# Altium footprint library OltestLib_chul.PcbLib: 102 footprints (part 4 of 7)
Each footprint in its own frame and in the unit in brackets; x right, y up, seen from the top. Pads: shape width x height; smd on the part's side, far side on the other; paste and mask are expansions set on the pad; w line width, h text height; cw(c..) or ccw(c..) is an arc to the next point about the centre after c.
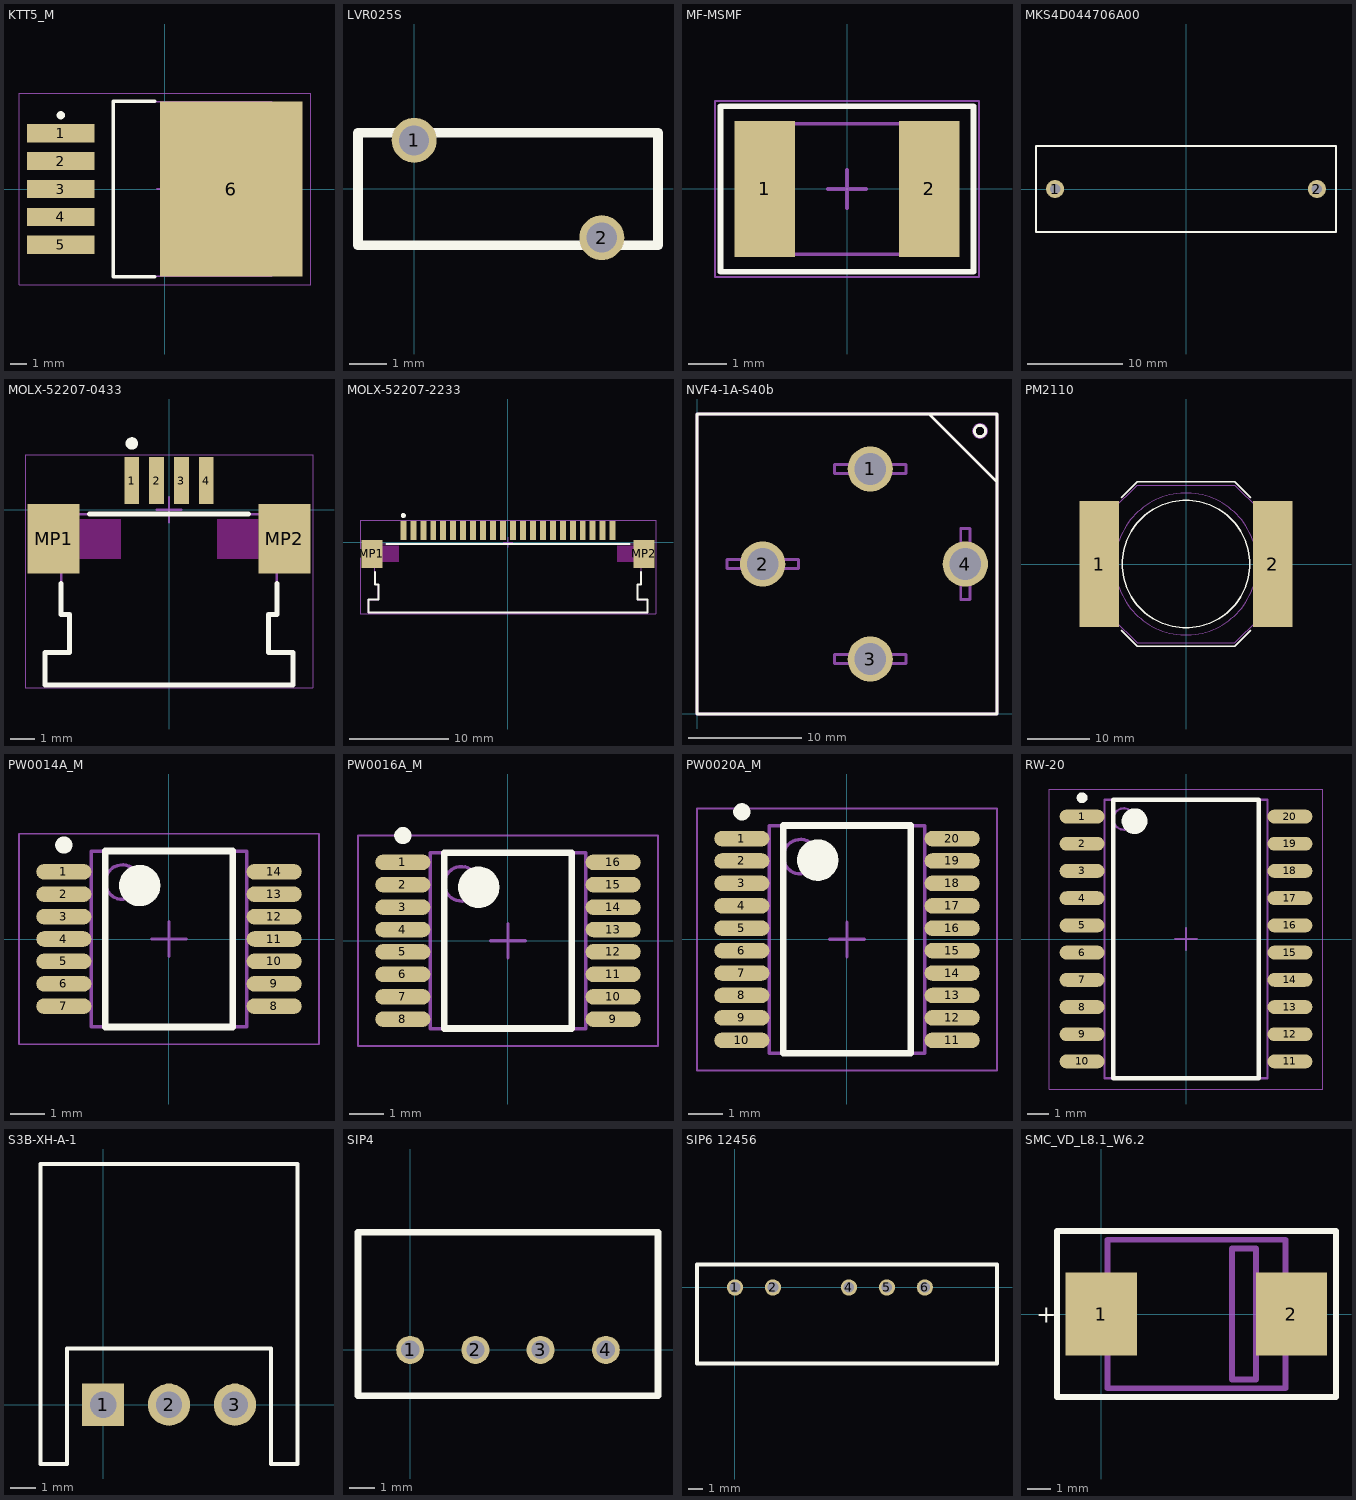
[diagram p3: the footprints below, top view; thin cyan lines are the x and y axes]

## KTT5_M [mm] "D2-PAK, 6-Leads, Body 8.9x10.2mm, Pitch 1.7mm, Lead Span 15.2mm, IPC Low Density"
height 4.83
pads (6):
  rect 4.1x1.1 smd: 1(-6.35,3.4) 2(-6.35,1.7) 3(-6.35,0) 4(-6.35,-1.7) 5(-6.35,-3.4)
  rect 8.7x10.7 smd: 6(4.05,0)
Top Overlay:
  circle w0.25: c-6.35,4.5 r0.125
  lines w0.2: -0.6,-5.35 -3.15,-5.35 -3.15,5.35 -0.6,5.35
Mechanical 13:
  lines w0.1: -3.15,-5.325 6.5,-5.325 6.5,5.325 -3.15,5.325 -3.15,-5.325
Mechanical 15:
  lines w0.05: -8.9,-5.85 8.9,-5.85 8.9,5.85 -8.9,5.85 -8.9,-5.85
  lines w0.1: -0.5,0 0.5,0 ; 0,-0.5 0,0.5
3D body: height 4.83, standoff 0, extent -3.15,-5.325 6.5,5.325

## LVR025S [mm] "Fuse Thermal"
height 14
pads (2):
  round 1.2 hole 0.8: 1(0,1.3) 2(5,-1.3)
Top Overlay:
  lines w0.254: -1.5,-1.5 6.5,-1.5 6.5,1.5 -1.5,1.5 -1.5,-1.5
3D body: height 15.4, standoff -4.08, extent -1.83,-1.8 6.83,1.8

## MF-MSMF [mm] "2-Leads, Body 4,55x3,24mm, IPC Low Density"
height 1
pads (2):
  rect 1.57x3.54 smd: 1(-2.145,0) 2(2.145,0)
Top Overlay:
  lines w0.152: -3.302,-2.159 -3.302,2.159 3.302,2.159 3.302,-2.159 -3.302,-2.159
Mechanical 13:
  lines w0.1: -2.365,-1.705 -2.365,1.705 2.365,1.705 2.365,-1.705 -2.365,-1.705
Mechanical 15:
  lines w0.05: -3.45,-2.3 -3.45,2.3 3.45,2.3 3.45,-2.3 -3.45,-2.3
  lines w0.1: -0.5,0 0.5,0 ; 0,-0.5 0,0.5
3D body: height 1, standoff 0, extent -2.365,-1.705 2.365,1.705

## MKS4D044706A00 [mm]
height 19
pads (2):
  round 1.9 hole 1.1: 1(-13.75,0) 2(13.75,0)
Top Overlay:
  lines w0.203: -15.75,-4.5 -15.75,4.5 15.75,4.5 15.75,-4.5 -15.75,-4.5
Mechanical 13:
  lines w0.152: -15.75,-4.5 -15.75,4.5 15.75,4.5 15.75,-4.5 -15.75,-4.5
3D body: height 19, standoff 0, extent -15.749,-4.499 15.749,4.499

## MOLX-52207-0433 [mm] "FPC Connector, 4-Leads, Right Angle, Pitch 1.0 mm, Mated Height 2.7 mm, SMT"
height 2.712
pads (6):
  rect 0.6x1.9 smd: 1(-1.5,1.175) 2(-0.5,1.175) 3(0.5,1.175) 4(1.5,1.175)
  rect 2.1x2.8 smd: MP1(-4.65,-1.175) MP2(4.65,-1.175)
Top Overlay:
  circle w0.25: c-1.5,2.675 r0.125
  lines w0.2: -4.35,-2.975 -4.35,-4.225 ; -3.2,-0.175 3.2,-0.175 ; 4.35,-2.975 4.35,-4.225 ; -4.35,-4.225 -4.013,-4.225 -4.012,-4.225 -4.012,-5.765 -5,-5.765 -5,-7.075 5,-7.075 5,-5.765 4.012,-5.765 4.012,-4.225 4.013,-4.225 4.35,-4.225 ; -4.35,-4.225 -4.35,-4.225 ; 4.35,-4.225 4.35,-4.225
Keep-Out Layer:
  region: -3.6,-0.375 -1.95,-0.375 -1.95,-1.975 -3.6,-1.975
  region: 3.6,-0.375 1.95,-0.375 1.95,-1.975 3.6,-1.975
Mechanical 13:
  lines w0.1: -5.15,-2.175 -5.15,-0.175 5.15,-0.175 5.15,-2.175 4.35,-2.175 4.35,-4.225 4.012,-4.225 4.012,-5.765 5,-5.765 5,-7.075 -5,-7.075 -5,-5.765 -4.012,-5.765 -4.012,-4.225 -4.35,-4.225 -4.35,-2.175 -5.15,-2.175
Mechanical 15:
  lines w0.05: -5.8,-7.175 -5.8,2.225 5.8,2.225 5.8,-7.175 -5.8,-7.175
  lines w0.1: -0.5,0 0.5,0 ; 0,-0.5 0,0.5
3D body: height 2.71, standoff 0.01, extent -5.15,-7.075 5.15,1.825

## MOLX-52207-2233 [mm] "FPC Connector, 22-Leads, Right Angle, Pitch 1.0 mm, Mated Height 2.7 mm, SMT"
height 2.712
pads (24):
  rect 0.6x1.9 smd: 1(-10.5,1.175) 2(-9.5,1.175) 3(-8.5,1.175) 4(-7.5,1.175) 5(-6.5,1.175) 6(-5.5,1.175) 7(-4.5,1.175) 8(-3.5,1.175) 9(-2.5,1.175) 10(-1.5,1.175) 11(-0.5,1.175) 12(0.5,1.175) 13(1.5,1.175) 14(2.5,1.175) 15(3.5,1.175) 16(4.5,1.175) 17(5.5,1.175) 18(6.5,1.175) 19(7.5,1.175) 20(8.5,1.175) 21(9.5,1.175) 22(10.5,1.175)
  rect 2.1x2.8 smd: MP1(-13.65,-1.175) MP2(13.65,-1.175)
Top Overlay:
  circle w0.25: c-10.5,2.675 r0.125
  lines w0.2: -13.35,-2.975 -13.35,-4.225 -13.013,-4.225 -13.012,-5.765 -14,-5.765 -14,-7.075 14,-7.075 14,-5.765 13.012,-5.765 13.012,-4.225 13.35,-4.225 13.35,-2.975 ; -12.2,-0.175 12.2,-0.175
Keep-Out Layer:
  region: 12.6,-0.375 10.95,-0.375 10.95,-1.975 12.6,-1.975
  region: -12.6,-0.375 -10.95,-0.375 -10.95,-1.975 -12.6,-1.975
Mechanical 13:
  lines w0.1: -14.15,-2.175 -13.35,-2.175 -13.35,-4.225 -13.012,-4.225 -13.012,-5.765 -14,-5.765 -14,-7.075 14,-7.075 14,-5.765 13.012,-5.765 13.012,-4.225 13.35,-4.225 13.35,-2.175 14.15,-2.175 14.15,-0.175 -14.15,-0.175 -14.15,-2.175
Mechanical 15:
  lines w0.05: -14.8,-7.175 14.8,-7.175 14.8,2.225 -14.8,2.225 -14.8,-7.175
  lines w0.1: -0.5,0 0.5,0 ; 0,-0.5 0,0.5
3D body: height 2.71, standoff 0.01, extent -14.15,-7.075 14.15,1.825

## NVF4-1A-S40b [mm]
height 27
pads (4):
  round 4 hole 2.8: 1(15.3,21.65) 2(5.8,13.25) 3(15.3,4.85) 4(23.7,13.25)
Top Overlay:
  circle w0.254: c25,25 r0.5
  lines w0.254: 20.5,26.5 26.5,20.5 ; 0,0 0,26.5 26.5,26.5 26.5,0 0,0
Mechanical 13:
  circle w0.254: c25,25 r0.566
  lines w0.254: 0,0 26.5,0 ; 0,0 0,26.5 ; 0,0 0,26.5 ; 0,0 26.5,0 ; 0,26.5 26.5,26.5 26.5,0 ; 0,26.5 20.5,26.5 26.5,20.5 26.5,0 ; 2.65,12.85 8.95,12.85 8.95,13.65 2.65,13.65 2.65,12.85 ; 12.15,4.45 12.15,5.25 18.45,5.25 18.45,4.45 12.15,4.45 ; 12.15,21.25 12.15,22.05 18.45,22.05 18.45,21.25 12.15,21.25 ; 23.3,10.1 24.1,10.1 24.1,16.4 23.3,16.4 23.3,10.1 ; 23.3,11.95 23.3,14.55 24.1,14.55 24.1,11.95 23.3,11.95
3D body: height 1.7, standoff 0, extent 23.301,11.951 24.1,14.55
3D body: height 2.5, standoff 0, extent 12.151,4.451 18.449,5.249
3D body: height 2.5, standoff 0, extent 12.151,21.251 18.449,22.049
3D body: height 2.5, standoff 0, extent 23.301,10.101 24.099,16.399
3D body: height 2.5, standoff 0, extent 2.651,12.851 8.949,13.649
3D body: height 26.5, standoff 2.5, extent 0.001,0.001 26.499,26.499
3D body: height 27, standoff 26.5, extent 0.001,0.001 26.499,26.499
3D body: height 27, standoff 26.5, extent 24.424,24.424 25.576,25.576
3D body: height 1.7, standoff 0, extent 14.001,4.451 16.6,5.25
3D body: height 1.7, standoff 0, extent 14.001,21.251 16.6,22.05
3D body: height 1.7, standoff 0, extent 4.501,12.851 7.1,13.65

## PM2110 [mm] "PM2110"
height 14.478
pads (2):
  rect 6.35x20.32 smd: 1(-13.97,0) 2(13.97,0)
Top Overlay:
  circle w0.203: c0,0 r10.252
  lines w0.203: -10.414,-10.668 -7.874,-13.208 7.874,-13.208 10.414,-10.668 ; -10.414,10.668 -7.874,13.208 7.874,13.208 10.414,10.668
Mechanical 13:
  circle w0.152: c0,0 r11.416
  lines w0.152: -15.24,-8.89 -11.684,-8.89 -7.874,-12.7 7.874,-12.7 11.684,-8.89 15.24,-8.89 15.24,8.89 11.684,8.89 7.874,12.7 -7.874,12.7 -11.684,8.89 -15.24,8.89 -15.24,-8.89
3D body: height 2.54, standoff 0, extent -15.241,-12.701 15.241,12.701
3D body: height 14.48, standoff 2.54, extent -11.426,-11.426 11.426,11.426

## PW0014A_M [mm] "SOP, 14-Leads, Body 5.1x4.5mm, Pitch 0.65mm, IPC Low Density"
height 1.2
pads (14):
  oval 1.6x0.45 smd: 1(-3.05,1.95) 2(-3.05,1.3) 3(-3.05,0.65) 4(-3.05,0) 5(-3.05,-0.65) 6(-3.05,-1.3) 7(-3.05,-1.95) 8(3.05,-1.95) 9(3.05,-1.3) 10(3.05,-0.65) 11(3.05,0) 12(3.05,0.65) 13(3.05,1.3) 14(3.05,1.95)
Top Overlay:
  circle w0.25: c-3.05,2.725 r0.125
  circle w0.6: c-0.85,1.55 r0.3
  lines w0.2: -1.85,-2.55 -1.85,2.55 1.85,2.55 1.85,-2.55 -1.85,-2.55
Mechanical 13:
  circle w0.1: c-1.35,1.65 r0.5
  lines w0.1: -2.25,-2.55 -2.25,2.55 2.25,2.55 2.25,-2.55 -2.25,-2.55
Mechanical 15:
  lines w0.05: -4.35,-3.05 -4.35,3.05 4.35,3.05 4.35,-3.05 -4.35,-3.05
  lines w0.1: -0.5,0 0.5,0 ; 0,-0.5 0,0.5
3D body: height 1.2, standoff 0, extent -3.21,-2.5 3.21,2.5

## PW0016A_M [mm] "SOP, 16-Leads, Body 5.1x4.5mm, Pitch 0.65mm, IPC Low Density"
height 1.2
pads (16):
  oval 1.6x0.45 smd: 1(-3.05,2.275) 2(-3.05,1.625) 3(-3.05,0.975) 4(-3.05,0.325) 5(-3.05,-0.325) 6(-3.05,-0.975) 7(-3.05,-1.625) 8(-3.05,-2.275) 9(3.05,-2.275) 10(3.05,-1.625) 11(3.05,-0.975) 12(3.05,-0.325) 13(3.05,0.325) 14(3.05,0.975) 15(3.05,1.625) 16(3.05,2.275)
Top Overlay:
  circle w0.6: c-0.85,1.55 r0.3
  circle w0.25: c-3.05,3.05 r0.125
  lines w0.2: -1.85,-2.55 1.85,-2.55 1.85,2.55 -1.85,2.55 -1.85,-2.55
Mechanical 13:
  circle w0.1: c-1.35,1.65 r0.5
  lines w0.1: -2.25,-2.55 2.25,-2.55 2.25,2.55 -2.25,2.55 -2.25,-2.55
Mechanical 15:
  lines w0.05: -4.35,-3.05 4.35,-3.05 4.35,3.05 -4.35,3.05 -4.35,-3.05
  lines w0.1: -0.5,0 0.5,0 ; 0,-0.5 0,0.5
3D body: height 1.2, standoff 0, extent -3.21,-2.5 3.21,2.5

## PW0020A_M [mm] "SOP, 20-Leads, Body 6.6x4.5mm, Pitch 0.65mm, IPC Low Density"
height 1.2
pads (20):
  oval 1.6x0.45 smd: 1(-3.05,2.925) 2(-3.05,2.275) 3(-3.05,1.625) 4(-3.05,0.975) 5(-3.05,0.325) 6(-3.05,-0.325) 7(-3.05,-0.975) 8(-3.05,-1.625) 9(-3.05,-2.275) 10(-3.05,-2.925) 11(3.05,-2.925) 12(3.05,-2.275) 13(3.05,-1.625) 14(3.05,-0.975) 15(3.05,-0.325) 16(3.05,0.325) 17(3.05,0.975) 18(3.05,1.625) 19(3.05,2.275) 20(3.05,2.925)
Top Overlay:
  circle w0.6: c-0.85,2.3 r0.3
  circle w0.25: c-3.05,3.7 r0.125
  lines w0.2: -1.85,-3.3 1.85,-3.3 1.85,3.3 -1.85,3.3 -1.85,-3.3
Mechanical 13:
  circle w0.1: c-1.35,2.4 r0.5
  lines w0.1: -2.25,-3.3 2.25,-3.3 2.25,3.3 -2.25,3.3 -2.25,-3.3
Mechanical 15:
  lines w0.05: -4.35,-3.8 4.35,-3.8 4.35,3.8 -4.35,3.8 -4.35,-3.8
  lines w0.1: -0.5,0 0.5,0 ; 0,-0.5 0,0.5
3D body: height 1.2, standoff 0, extent -3.21,-3.25 3.21,3.25

## RW-20 [mm] "SOIC, 20-Leads, Body 12,80x7,50mm, Pitch 1,27mm, IPC Low Density"
height 2.65
pads (20):
  oval 2.1x0.65 smd: 1(-4.85,5.715) 2(-4.85,4.445) 3(-4.85,3.175) 4(-4.85,1.905) 5(-4.85,0.635) 6(-4.85,-0.635) 7(-4.85,-1.905) 8(-4.85,-3.175) 9(-4.85,-4.445) 10(-4.85,-5.715) 11(4.85,-5.715) 12(4.85,-4.445) 13(4.85,-3.175) 14(4.85,-1.905) 15(4.85,-0.635) 16(4.85,0.635) 17(4.85,1.905) 18(4.85,3.175) 19(4.85,4.445) 20(4.85,5.715)
Top Overlay:
  circle w0.25: c-4.85,6.59 r0.125
  circle w0.6: c-2.4,5.5 r0.3
  lines w0.2: -3.4,-6.5 -3.4,6.5 3.4,6.5 3.4,-6.5 -3.4,-6.5
Mechanical 13:
  circle w0.1: c-2.9,5.6 r0.5
  lines w0.1: -3.8,-6.5 -3.8,6.5 3.8,6.5 3.8,-6.5 -3.8,-6.5
Mechanical 15:
  lines w0.05: -6.375,-7 -6.375,7 6.375,7 6.375,-7 -6.375,-7
  lines w0.1: -0.5,0 0.5,0 ; 0,-0.5 0,0.5
3D body: height 2.65, standoff 0, extent -5.162,-6.5 5.162,6.5

## S3B-XH-A-1 [mil]
pads (3):
  rect 64x64 / inner round 0 / far side rect 64x64 hole 40 mask+5: 1(0,0)
  round 64 / inner round 0 / far side round 64 hole 40 mask+5: 2(100,0) 3(200,0)
Top Overlay:
  lines w6: -95,-90 -55,-90 -55,85 255,85 255,-90 295,-90 295,365 -95,365 -95,-90
3D body: height 243.13, standoff -132.86, extent -94.88,-90.38 294.88,362.38

## SIP4 [mil]
pads (4):
  round 43 / inner round 0 / far side round 43 hole 28 mask+4: 1(0,0) 2(100,0) 3(200,0) 4(300,0)
Top Overlay:
  lines w10: -80,-70 -80,180 380,180 380,-70 -40,-70 -80,-70
3D body: height 400, standoff 0, extent -79.98,-69.98 379.98,179.98

## SIP6 12456 [mil]
pads (5):
  round 43 / inner round 0 / far side round 43 hole 28 mask+4: 1(0,0) 2(100,0) 4(300,0) 5(400,0) 6(500,0)
Top Overlay:
  lines w10: -100,-200 -100,60 690,60 690,-200 630,-200 -100,-200
3D body: height 400, standoff 0, extent -99.98,-199.98 689.98,59.98

## SMC_VD_L8.1_W6.2 [mil] "Schottky Diode, 2-Leads, Body 8,13x6,52mm, IPC Low Density"
pads (2):
  rect 120x140 smd: 1(0,0) 2(320,0)
Top Overlay:
  lines w10: -75,-140 395,-140 395,140 -75,140 -75,0 -75,-140
  text "+" at -110,-15 h30
Mechanical 13:
  lines w10: 0,-60 0,0 0,60 10,60 10,20 10,-20 10,-60 0,-60 ; 10,-125 280,-125 310,-125 310,125 280,125 10,125 10,10 10,-41.25 10,-83.75 10,-125 ; 220,-110 220,110 260,110 260,-110 220,-110 ; 310,-60 320,-60 320,60 310,60 310,-10 310,-60
3D body: height 50, standoff 0, extent 0.02,-59.98 9.98,59.98
3D body: height 50, standoff 0, extent 310.02,-59.98 319.98,59.98
3D body: height 107, standoff 105, extent 220.02,-109.98 259.98,109.98
3D body: height 105, standoff 0, extent 10.02,-124.98 309.98,124.98